# Altium integrated library CRL2512-JW-R300ELF.IntLib: 1 symbol
Pins are listed as number, name and electrical type; pins without a type are passive.

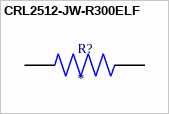
[diagram p0: symbol CRL2512-JW-R300ELF]

## CRL2512-JW-R300ELF
designator R?
Res Thick Film 2512 0.3 Ohm 5% 1W Â±200ppm/Â°C Molded SMD SMD Embossed Plastic T/R; MF: Bourns; MP: CRL2512-JW-R300ELF; Purchase-URL: https://pricing.snapeda.com/search/part/CRL2512-JW-R300ELF/?ref=eda; Package: 6331 Bourns; Value: *; Check_prices: https://www.snapeda.com/parts/CRL2512-JW-R300ELF/Bourns/view-part/?ref=eda; SnapEDA_Link: https://www.snapeda.com/parts/CRL2512-JW-R300ELF/Bourns/view-part/?ref=snap; Availability: In Stock; Price: None
footprint RESC6331X70N
pins: 1, 2